# Altium footprint library CON2X5_TH_2MM.PcbLib: 1 footprints
Each footprint in its own frame and in the unit in brackets; x right, y up, seen from the top. Pads: shape width x height; smd on the part's side, far side on the other; paste and mask are expansions set on the pad; w line width, h text height; cw(c..) or ccw(c..) is an arc to the next point about the centre after c.
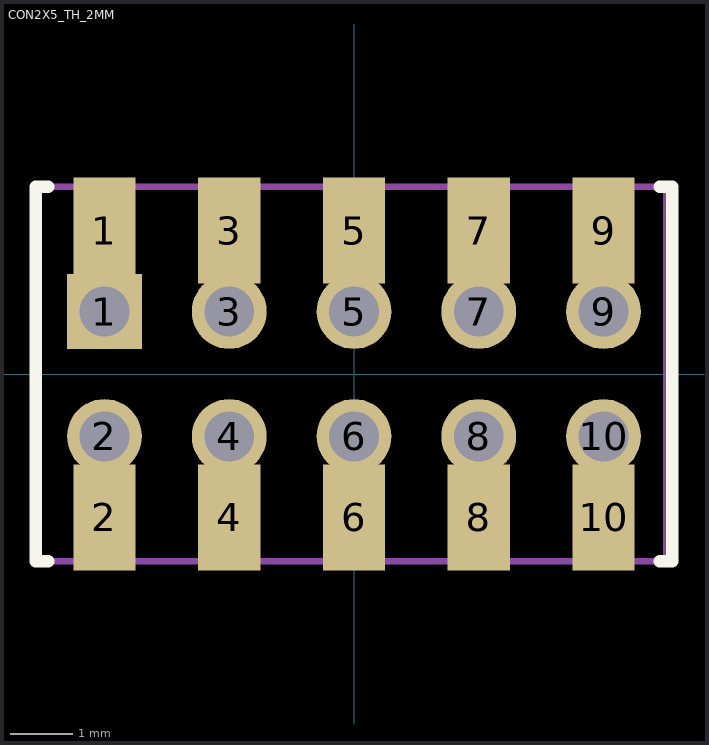
[diagram p0: the footprint, top view; thin cyan lines are the x and y axes]

## CON2X5_TH_2MM [mm]
height 2.4
pads (20):
  rect 1.2x1.2 hole 0.8: 1(-4,1)
  rect 1x1.7 smd: 1(-4,2.3) 2(-4,-2.3) 3(-2,2.3) 4(-2,-2.3) 5(0,2.3) 6(0,-2.3) 7(2,2.3) 8(2,-2.3) 9(4,2.3) 10(4,-2.3)
  round 1.2 hole 0.8: 2(-4,-1) 3(-2,1) 4(-2,-1) 5(0,1) 6(0,-1) 7(2,1) 8(2,-1) 9(4,1) 10(4,-1)
Top Overlay:
  lines w0.2: -4.9,-3 -5.1,-3 -5.1,3 -4.9,3 ; 4.9,-3 5.1,-3 5.1,3 4.9,3
Mechanical 15:
  lines w0.1: -5.1,-3 -5.1,3 5,3 5,-3 -5.1,-3
3D body: height 2.4, standoff 0, extent -5,-2.9 5,2.9